# Altium footprint library hsbest2.PcbLib: 365 footprints (part 5 of 23)
Each footprint in its own frame and in the unit in brackets; x right, y up, seen from the top. Pads: shape width x height; smd on the part's side, far side on the other; paste and mask are expansions set on the pad; w line width, h text height; cw(c..) or ccw(c..) is an arc to the next point about the centre after c.
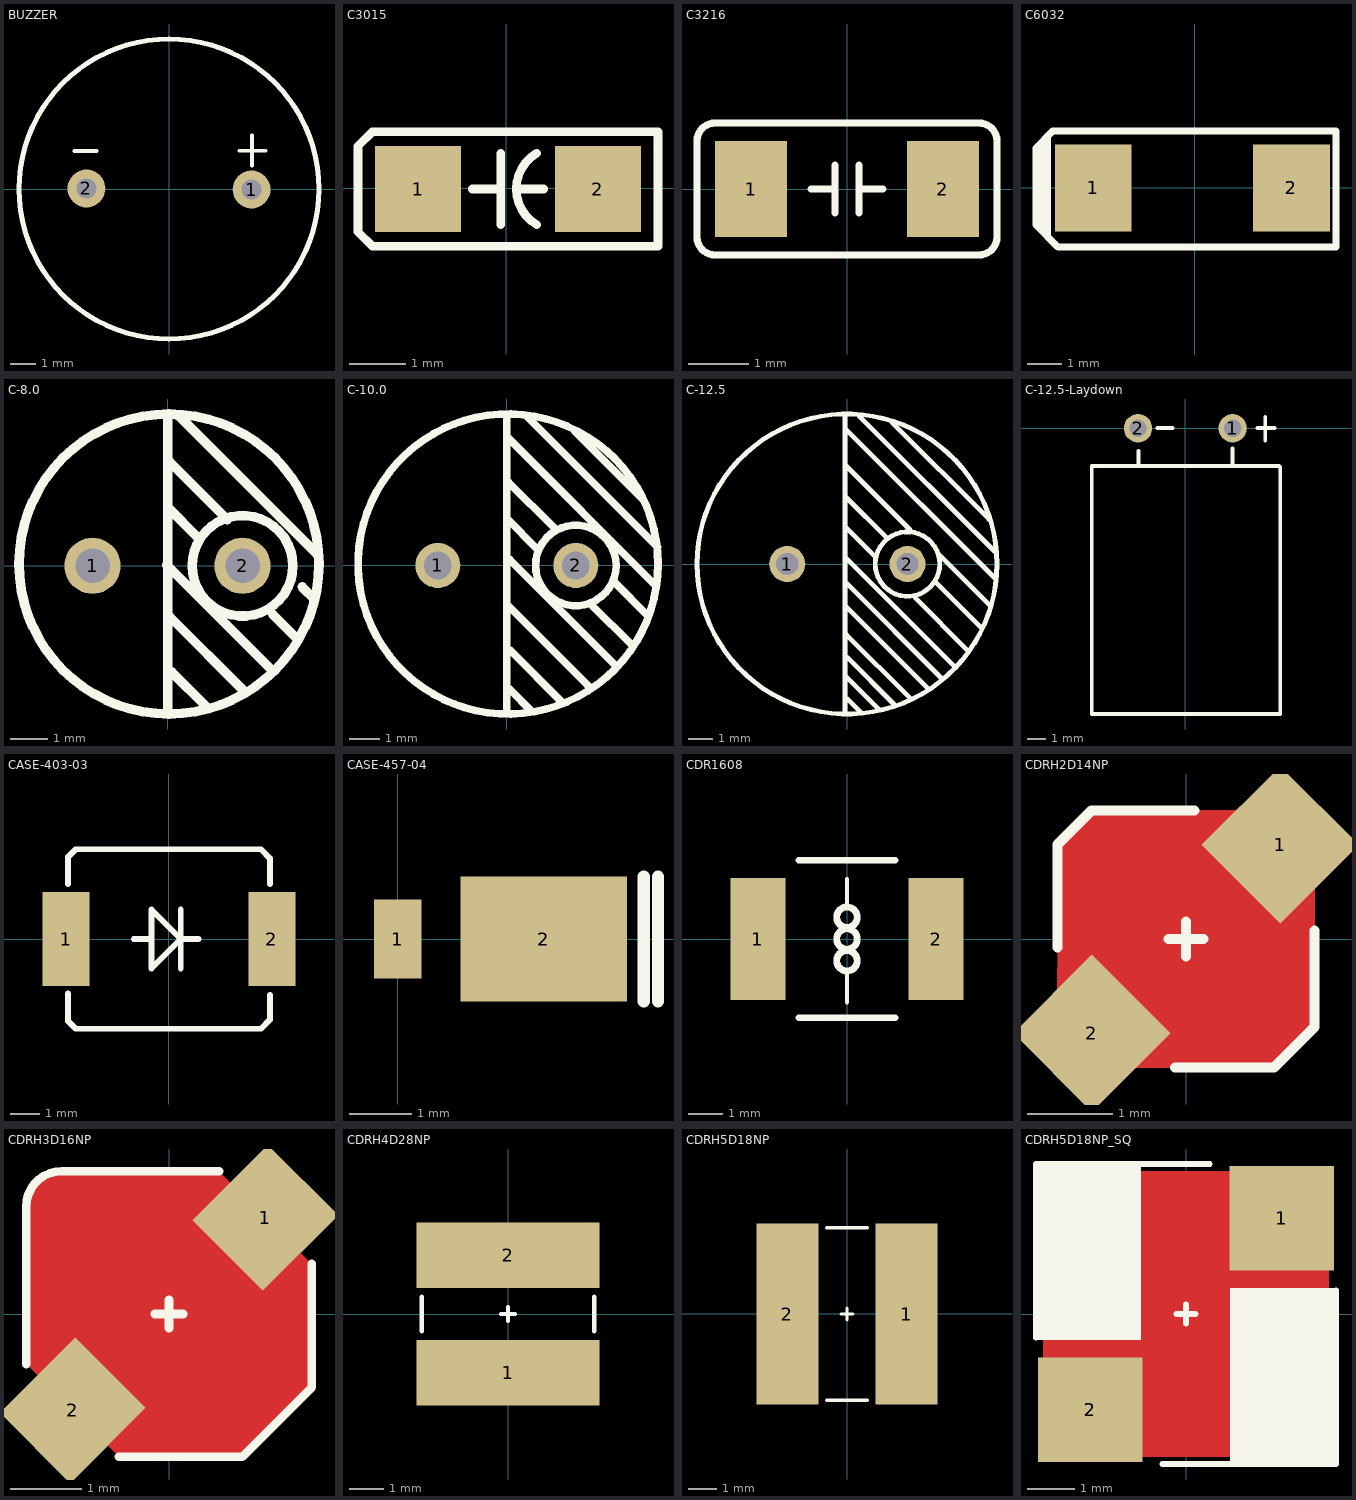
[diagram p4: the footprints below, top view; thin cyan lines are the x and y axes]

## BUZZER [mm]
pads (2):
  round 1.5 hole 0.8: 1(3.273,-0.02) 2(-3.273,0.02)
Top Overlay:
  circle w0.2: c0,0 r5.942
  lines w0.15: -3.741,1.505 -2.863,1.505 ; 2.781,1.516 3.831,1.516 ; 3.291,0.936 3.291,2.116

## C3015 [mil]
pads (2):
  rect 60x60 smd: 1(-61.64,-0.42) 2(64.36,-0.42)
Top Overlay:
  lines w6: -23.64,-0.42 -3.64,-0.42 ; -3.64,-25.42 -3.64,24.58 ; 7.36,-0.42 26.36,-0.42 ; 21.34,-25.41 cw(c36.36,-0.42) 21.39,24.59 ; -103.64,-30.42 -103.64,29.58 -93.64,39.58 106.36,39.58 106.36,-40.42 -93.64,-40.42 -103.64,-30.42

## C3216 [mm]
pads (2):
  rect 1.2x1.6 smd: 1(-1.6,0) 2(1.6,0)
Top Overlay:
  lines w0.12: -0.6,0 -0.2,0 ; -0.2,-0.4 -0.2,0.4 ; 0.2,-0.4 0.2,0.4 ; 0.2,0 0.6,0 ; -2.5,-0.8 ccw(c-2.2,-0.8) -2.2,-1.1 2.2,-1.1 ccw(c2.2,-0.8) 2.5,-0.8 2.5,0.8 ccw(c2.2,0.8) 2.2,1.1 -2.2,1.1 ccw(c-2.2,0.8) -2.5,0.8 -2.5,-0.8

## C6032 [mm]
pads (2):
  rect 2.2x2.5 smd: 1(-2.921,0) 2(2.779,0)
Top Overlay:
  lines w0.203: -4.408,-1.226 -4.408,1.289 ; -4.233,-1.394 -4.233,1.479 ; -4.565,-1.071 -4.565,1.146 -4.083,1.628 4.058,1.628 4.058,-1.697 -3.938,-1.697 -4.565,-1.071

## C-8.0 [mm]
pads (2):
  rrect100% 1.5x1.5 hole 0.92: 1(-2,0) 2(2,0)
Top Overlay:
  circle w0.254: c2,0 r1.342
  circle w0.254: c0.039,0.049 r4
  lines w0.254: -0.021,0.022 2.813,-2.812 ; 0,-3.925 0,4.025 ; 0.009,1.555 0.832,0.732 ; 0.054,2.774 1.593,1.235 ; 0.059,-1.358 2.05,-3.35 ; 0.11,-2.827 1.054,-3.771 ; 0.306,3.991 3.999,0.299 ; 2.802,-1.292 3.442,-1.933 ; 3.589,-0.563 3.926,-0.899

## C-10.0 [mm]
pads (2):
  rrect100% 1.5x1.5 hole 0.92: 1(-2.3,0) 2(2.3,0)
Top Overlay:
  circle w0.254: c0.039,0.049 r5
  circle w0.254: c2.3,0 r1.342
  lines w0.254: 0,-4.826 0,5.012 ; 0.009,1.555 1.019,0.546 ; 0.054,2.774 1.593,1.235 ; 0.056,4.241 4.983,-0.686 ; 0.059,-1.358 2.707,-4.007 ; 0.077,-4.11 0.839,-4.873 ; 0.104,0.197 3.636,-3.335 ; 0.11,-2.827 1.856,-4.572 ; 0.664,4.977 5.033,0.609 ; 2.268,4.473 4.516,2.225 ; 2.802,-1.292 4.191,-2.681 ; 3.589,-0.563 4.72,-1.694

## C-12.5 [mm]
pads (2):
  rrect100% 1.5x1.5 hole 0.92: 1(-2.5,0) 2(2.5,0)
Top Overlay:
  circle w0.2: c-0.015,0.002 r6.236
  circle w0.2: c2.5,0 r1.342
  lines w0.2: -0.103,-6.186 -0.103,6.197 ; -0.1,-5 -0.1,4.9 ; -0.067,0.267 4.466,-4.266 ; -0.067,5.608 6.158,-0.618 ; -0.062,-2.914 2.609,-5.585 ; -0.056,2.784 1.631,1.097 ; -0.056,4.08 2.609,1.415 ; -0.045,-1.777 3.345,-5.167 ; -0.045,1.509 1.158,0.305 ; -0.034,-4.7 1.29,-6.024 ; -0.034,-0.799 3.906,-4.738 ; -0.023,-5.579 0.532,-6.134 ; -0.012,-3.876 1.939,-5.826 ; 0.499,6.141 6.158,0.481 ; 1.851,5.899 5.895,1.855 ; 2.834,-1.425 4.993,-3.585 ; 3.697,-0.771 5.565,-2.64 ; 3.84,0.372 5.939,-1.727

## C-12.5-Laydown [mm]
pads (2):
  round 1.5 hole 0.92: 1(2.5,0) 2(-2.5,0)
Top Overlay:
  lines w0.2: -4.943,-1.999 -4.943,-15.111 5.015,-15.111 5.015,-2.051 ; -4.902,-1.999 4.957,-1.999 ; -2.478,-1.958 -2.478,-1.191 ; -1.479,0.015 -0.67,0.015 ; 2.492,-1.999 2.492,-1.069 ; 3.8,0.015 4.729,0.015 ; 4.226,-0.664 4.226,0.588

## CASE-403-03 [mm]
pads (2):
  rrect0% 1.6x3.2 smd: 1(-3.5,0) 2(3.5,0)
Top Overlay:
  lines w0.2: -3.43,-1.85 -3.43,-2.795 -3.175,-3.05 3.125,-3.05 3.43,-2.745 3.43,-1.9 ; -3.43,1.875 -3.43,2.795 -3.175,3.05 3.125,3.05 3.43,2.745 3.43,1.875 ; -1.2,0 -0.6,0 ; 0.4,-1 0.4,1 ; 1,0 0.4,0 ; 0.4,0 -0.6,-1 -0.6,1 0.4,0

## CASE-457-04 [mm]
pads (2):
  rect 0.762x1.27 smd: 1(0,0)
  rect 2.67x2 smd: 2(2.346,0)
Top Overlay:
  lines w0.2: 3.95,-1 3.95,1 ; 4.175,-1 4.175,1

## CDR1608 [mm]
pads (2):
  rect 1.6x3.56 smd: 1(-2.6,0) 2(2.6,0)
Top Overlay:
  circle w0.2: c0,0.635 r0.3
  circle w0.2: c0,0 r0.3
  circle w0.2: c0,-0.635 r0.3
  lines w0.125: 0,-1.85 0,-0.95 ; 0,0.9 0,1.75
  lines w0.2: -1.4,-2.3 1.4,-2.3 ; -1.4,2.3 1.4,2.3

## CDRH2D14NP [mm]
pads (2):
  rect 1.3x1.3 smd rot 45: 1(1.1,1.1) 2(-1.1,-1.1)
Top Layer:
  pour cut-out: -1.484,1.116 -1.504,-0.621 -0.625,-1.5 1.025,-1.5 1.5,-1.025 1.5,0.7 0.7,1.5 -1.1,1.5
Top Overlay:
  lines w0.12: -1.5,-0.1 -1.5,1.1 -1.1,1.5 0.1,1.5 ; -0.2,0 0.2,0 ; -0.125,-1.5 1.025,-1.5 1.5,-1.025 1.5,0.1 ; 0,-0.2 0,0.2

## CDRH3D16NP [mm]
pads (2):
  rect 1.5x1.4 smd rot 45: 1(1.35,1.35) 2(-1.35,-1.35)
Top Layer:
  pour cut-out: -1.973,1.727 -2,-0.7 -0.7,-2 1.025,-2 2,-1.025 2,0.7 0.7,2 -1.7,2
Top Overlay:
  lines w0.12: -2,-0.7 -2,1.5 ; -2,1.504 cw(c-1.5,1.5) -1.497,2 ; -1.5,2 0.7,2 ; -0.7,-2 1.025,-2 2,-1.025 2,0.7 ; -0.2,0 0.2,0 ; 0,-0.2 0,0.2

## CDRH4D28NP [mm]
pads (2):
  rect 5.3x1.9 smd: 1(0,-1.7) 2(0,1.7)
Top Overlay:
  lines w0.12: -2.5,-0.5 -2.5,0.5 ; -0.2,0 0.2,0 ; 0,-0.2 0,0.2 ; 2.5,-0.5 2.5,0.5

## CDRH5D18NP [mm]
pads (2):
  rect 2.15x6.3 smd: 1(2.075,0) 2(-2.075,0)
Top Overlay:
  lines w0.12: -0.7,-3 0.7,-3 ; -0.7,3 0.7,3 ; -0.2,0 0.2,0 ; 0,-0.2 0,0.2

## CDRH5D18NP_SQ [mm]
pads (2):
  rect 2.2x2.2 smd: 1(2.008,2.008) 2(-2.008,-2.008)
Top Layer:
  pour cut-out: -3,3 -3,-3 3,-3 3,3
Top Overlay:
  rectangle: 0.925,-3.15 3.15,0.55
  rectangle: -3.15,-0.55 -0.95,3.15
  lines w0.12: -3.15,-0.5 -3.15,3.15 0.5,3.15 ; -0.5,-3.15 3.15,-3.15 3.15,0.5 ; -0.2,0 0.2,0 ; 0,-0.2 0,0.2